# Altium footprint library 封装库.PCBLIB: 282 footprints (part 3 of 18)
Each footprint in its own frame and in the unit in brackets; x right, y up, seen from the top. Pads: shape width x height; smd on the part's side, far side on the other; paste and mask are expansions set on the pad; w line width, h text height; cw(c..) or ccw(c..) is an arc to the next point about the centre after c.
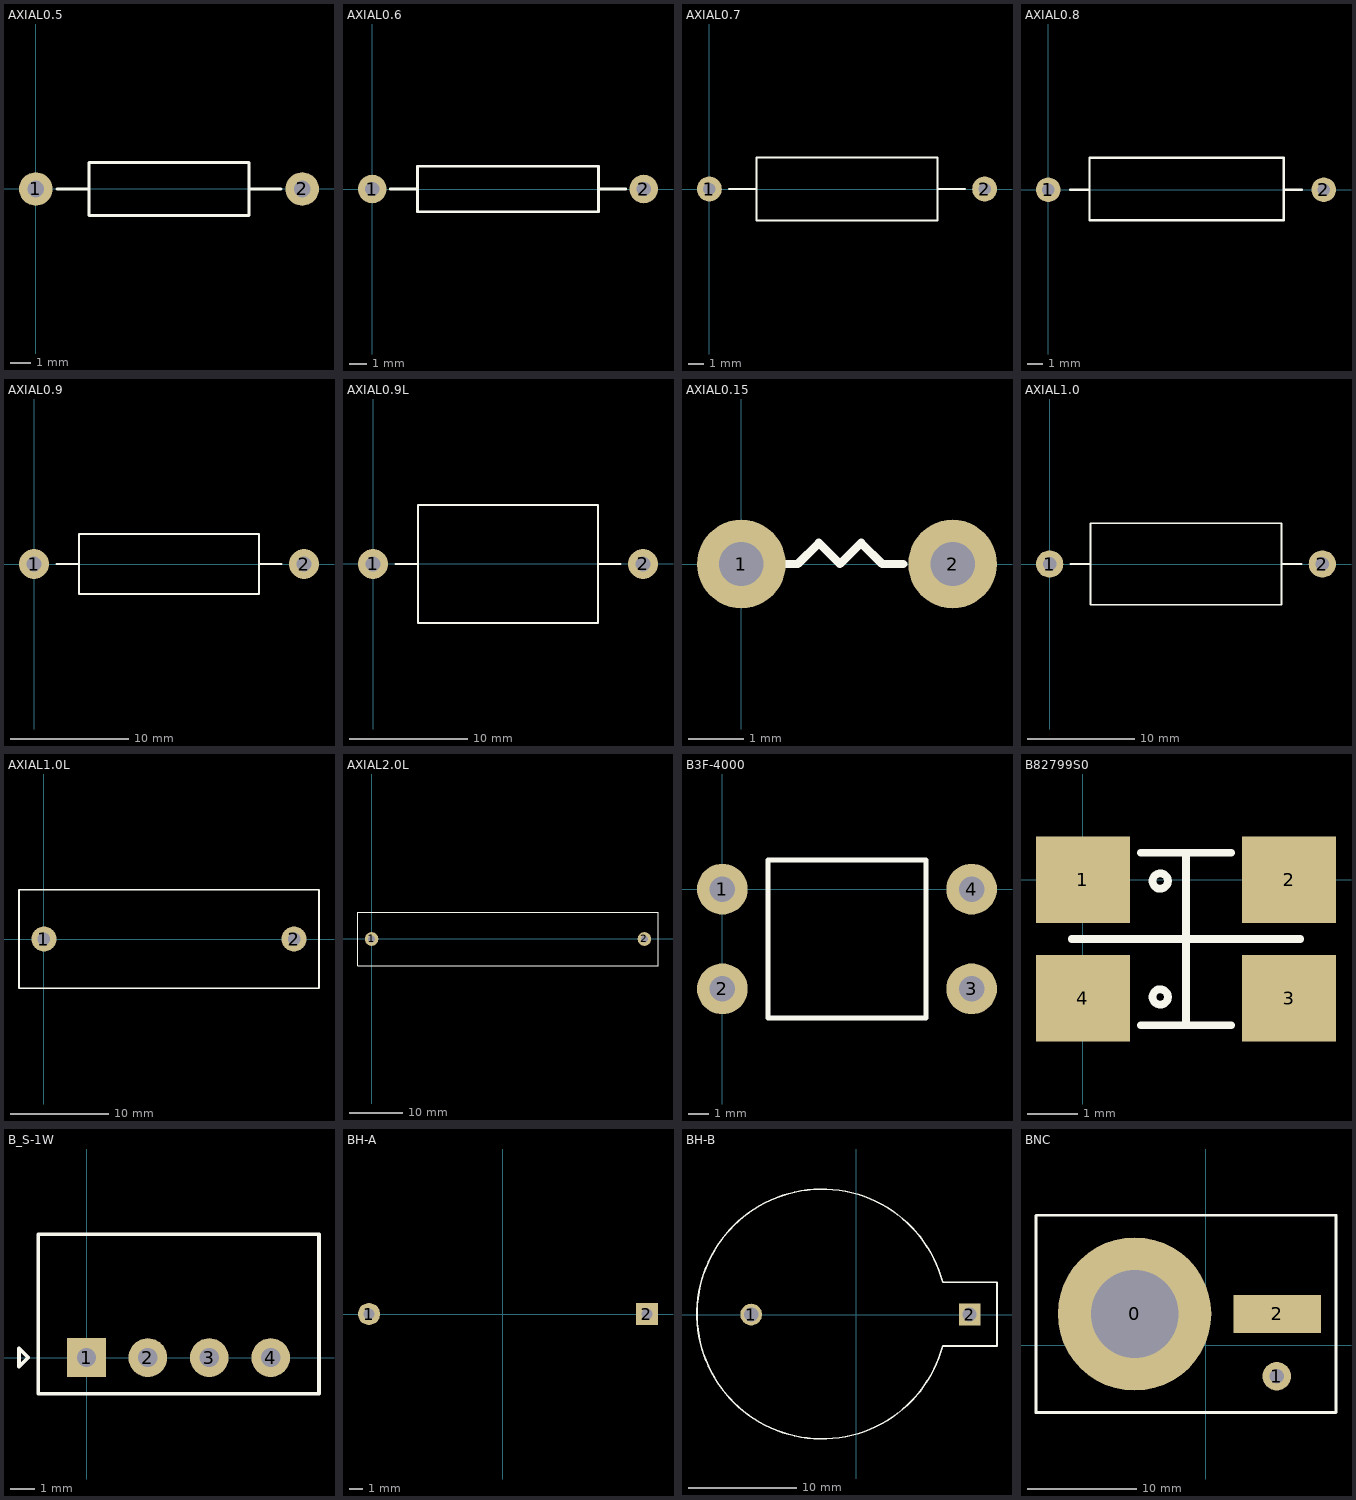
[diagram p2: the footprints below, top view; thin cyan lines are the x and y axes]

## AXIAL0.5 [mm]
pads (2):
  round 1.6 hole 0.8: 1(0,0) 2(12.7,0)
TopOverlay:
  lines w0.152: 1.016,0 2.54,0 ; 10.16,0 11.684,0 ; 2.54,-1.27 2.54,1.27 10.16,1.27 10.16,-1.27 2.54,-1.27

## AXIAL0.6 [mm]
pads (2):
  round 1.6 hole 0.8: 1(0,0) 2(15.24,0)
TopOverlay:
  lines w0.152: 1.016,0 2.54,0 ; 12.7,0 14.224,0 ; 2.54,-1.27 2.54,1.27 12.7,1.27 12.7,-1.27 2.54,-1.27

## AXIAL0.7 [mm]
pads (2):
  round 1.6 hole 0.8: 1(0,0) 2(17.78,0)
TopOverlay:
  lines w0.152: 1.27,0 3.048,0 ; 14.732,0 16.51,0 ; 3.048,-2.032 3.048,2.032 14.732,2.032 14.732,-2.032 3.048,-2.032

## AXIAL0.8 [mm]
pads (2):
  round 1.6 hole 0.8: 1(0,0) 2(18,0)
TopOverlay:
  lines w0.152: 15.392,0 16.578,0 ; 1.422,0 2.692,0 1.422,0 ; 2.692,-1.981 2.692,2.083 15.392,2.083 15.392,-1.981 2.692,-1.981
  lines w0.254: 0,-0.254 0,0.254 ; 18,-0.254 18,0.254

## AXIAL0.9 [mm]
pads (2):
  round 2.54 hole 1.27: 1(0,0) 2(22.86,0)
TopOverlay:
  lines w0.152: 1.905,0 3.81,0 ; 19.05,0 20.955,0 ; 3.81,-2.54 19.05,-2.54 19.05,2.54 3.81,2.54 3.81,-2.54

## AXIAL0.9L [mm]
pads (2):
  round 2.54 hole 1.27: 1(0,0) 2(22.86,0)
TopOverlay:
  lines w0.152: 1.905,0 3.81,0 ; 3.81,-2.54 3.81,2.54 ; 7.061,-5 19.046,-5 ; 9.931,5 19.046,5 19.046,-5 ; 11.43,-5 3.814,-5 3.814,5 11.43,5 ; 19.05,-5.004 19.046,-5 ; 19.05,-2.54 19.05,2.54 ; 19.05,0 20.955,0
  lines w0.254: 22.581,0 22.86,0

## AXIAL0.15 [mm]
pads (2):
  round 1.6 hole 0.8: 1(0,0) 2(3.81,0)
TopOverlay:
  lines w0.152: 0.635,0 1.016,0 1.397,0.381 1.778,0 2.159,0.381 2.54,0 2.921,0

## AXIAL1.0 [mm]
pads (2):
  round 2.54 hole 1.27: 1(0,0) 2(25.4,0)
TopOverlay:
  lines w0.152: 1.905,0 3.81,0 ; 21.59,0 23.495,0 ; 3.81,-3.81 21.59,-3.81 21.59,3.81 3.81,3.81 3.81,-3.81

## AXIAL1.0L [mm] "5W/2Ω"
pads (2):
  round 2.54 hole 1.27: 1(0,0) 2(25.4,0)
TopOverlay:
  lines w0.152: -2.536,-5 27.936,-5 27.936,5 -2.536,5 -2.536,-5

## AXIAL2.0L [mm] "10W/5Ω"
pads (2):
  round 2.54 hole 1.27: 1(0,0) 2(50.8,0)
TopOverlay:
  lines w0.152: -2.536,-5 53.332,-5 53.332,5 -2.536,5 -2.536,-5

## B3F-4000 [mm] "KEY"
pads (4):
  round 2.54 hole 1.27: 1(0,0) 2(0,-5) 3(12.5,-5) 4(12.5,0)
TopOverlay:
  lines w0.254: 2.288,-6.458 2.288,-5.472 ; 2.288,-6.084 2.288,0.548 ; 2.288,-0.214 2.288,1.458 ; 2.291,-6.46 7.163,-6.46 ; 2.291,1.46 7.62,1.46 ; 4.928,-6.46 10.206,-6.46 ; 6.248,1.46 10.206,1.46 ; 10.208,-6.458 10.208,-2.5 ; 10.208,-2.932 10.208,1.458

## B82799S0 [mm] "Sector winding,common mode choke"
pads (4):
  rect 1.85x1.7 smd: 1(0,0) 2(4.064,0) 3(4.064,-2.337) 4(0,-2.337)
TopOverlay:
  circle w0.152: c1.524,-2.311 r0.152
  circle w0.152: c1.524,-0.025 r0.152
  lines w0.152: -0.218,-1.168 2.032,-1.168 ; 1.145,-2.868 2.032,-2.868 ; 1.145,0.532 2.032,0.532 ; 2.919,-2.868 2.032,-2.868 ; 2.919,0.532 2.032,0.532 ; 4.282,-1.168 2.032,-1.168 ; 2.032,-2.868 2.032,-1.168 ; 2.032,-1.168 2.032,0.532

## B_S-1W [mm] "B_S-1W,DC/DC"
pads (4):
  rect 1.6x1.6 hole 0.8: 1(0,0)
  round 1.6 hole 0.8: 2(2.54,0) 3(5.08,0) 4(7.62,0)
TopOverlay:
  lines w0.152: -2.794,-0.381 -2.794,0.381 -2.413,0 -2.794,-0.381 ; -2,-1.499 -2,5.105 9.62,5.105 9.62,-1.499 -2,-1.499

## BH-A [mm]
pads (2):
  round 1.6 hole 0.8: 1(-9.677,0)
  rect 1.6x1.6 hole 0.8: 2(10.439,0)

## BH-B [mm]
pads (2):
  round 2 hole 1.3: 1(-9.677,0)
  rect 2x2 hole 1.3: 2(10.439,0)
TopOverlay:
  lines w0.152: 7.95,-2.896 12.954,-2.896 12.954,0.267 12.954,-0.241 ; 7.95,-2.887 cw(c-3.169,0.049) 7.95,2.984 12.954,2.984 12.954,-0.33

## BNC [mm]
pads (3):
  round 14 hole 8: 0(-6.502,2.845)
  round 2.6 hole 1.3: 1(6.477,-2.845)
  rect 8x3.5 smd: 2(6.502,2.845)
TopOverlay:
  lines w0.254: -15.502,3.099 -15.502,11.828 -15.486,11.845 -13.724,11.845 -6.248,11.845 ; -15.502,3.785 -15.502,-6.164 -15.494,-6.155 -13.504,-6.155 -6.756,-6.155 ; -8.941,11.845 11.879,11.845 11.879,-6.147 11.87,-6.155 -7.899,-6.155